# Altium schematic symbol library xlib.SchLib: 17 symbols
Pins are listed as number, name and electrical type; pins without a type are passive.

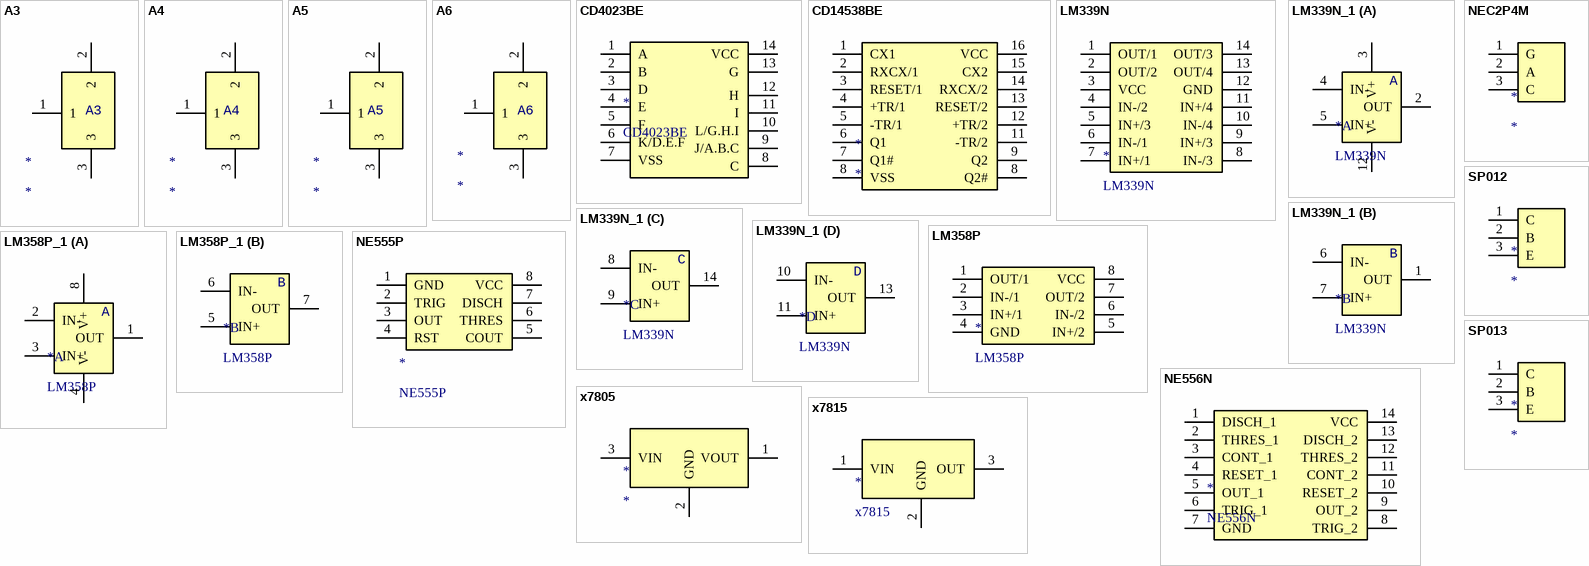
[diagram p0: symbols A3 to x7815]

## A3
designator *
pins: 1, 2, 3

## A4
designator *
pins: 1, 2, 3

## A5
designator *
pins: 1, 2, 3

## A6
designator *
pins: 1, 2, 3

## CD4023BE
designator *
footprint DIP14
pins: 1 A, 2 B, 3 D, 4 E, 5 F, 6 K/D.E.F, 7 VSS, 8 C, 9 J/A.B.C, 10 L/G.H.I, 11 I, 12 H, 13 G, 14 VCC

## CD14538BE
designator *
pins: 1 CX1, 2 RXCX/1, 3 RESET/1, 4 +TR/1, 5 -TR/1, 6 Q1, 7 Q1#, 8 VSS, 8 Q2#, 9 Q2, 11 -TR/2, 12 +TR/2, 13 RESET/2, 14 RXCX/2, 15 CX2, 16 VCC

## LM339N
designator *
footprint DIP14
pins: 1 OUT/1, 2 OUT/2, 3 VCC, 4 IN-/2, 5 IN+/3, 6 IN-/1, 7 IN+/1, 8 IN-/3, 9 IN+/3, 10 IN-/4, 11 IN+/4, 12 GND, 13 OUT/4, 14 OUT/3

## LM339N_1
designator *, comment LM339N
LM339N_1
footprint DIP14
part A pins: 2 OUT, 3 V+, 4 IN-, 5 IN+, 12 V-
part B pins: 1 OUT, 6 IN-, 7 IN+
part C pins: 8 IN-, 9 IN+, 14 OUT
part D pins: 10 IN-, 11 IN+, 13 OUT
part A text: A
part B text: B
part C text: C
part D text: D

## LM358P
designator *
footprint DIP8
pins: 1 OUT/1, 2 IN-/1, 3 IN+/1, 4 GND, 5 IN+/2, 6 IN-/2, 7 OUT/2, 8 VCC

## LM358P_1
designator *, comment LM358P
footprint DIP8
part A pins: 1 OUT, 2 IN-, 3 IN+, 4 V-, 8 V+
part B pins: 5 IN+, 6 IN-, 7 OUT
part A text: A
part B text: B

## NE555P
designator *
footprint DIP8
pins: 1 GND, 2 TRIG, 3 OUT, 4 RST, 5 COUT, 6 THRES, 7 DISCH, 8 VCC

## NE556N
designator *
footprint DIP14
pins: 1 DISCH_1, 2 THRES_1, 3 CONT_1, 4 RESET_1, 5 OUT_1, 6 TRIG_1, 7 GND, 8 TRIG_2, 9 OUT_2, 10 RESET_2, 11 CONT_2, 12 THRES_2, 13 DISCH_2, 14 VCC

## NEC2P4M
designator *
pins: 1 G, 2 A, 3 C

## SP012
designator *
pins: 1 C, 2 B, 3 E

## SP013
designator *
pins: 1 C, 2 B, 3 E

## x7805
designator *
pins: 1 VOUT, 2 GND, 3 VIN

## x7815
designator *
pins: 1 VIN, 2 GND, 3 OUT